# Altium integrated library Linear Technology Power Management uModule Regulators.IntLib: 166 symbols (part 22 of 67)
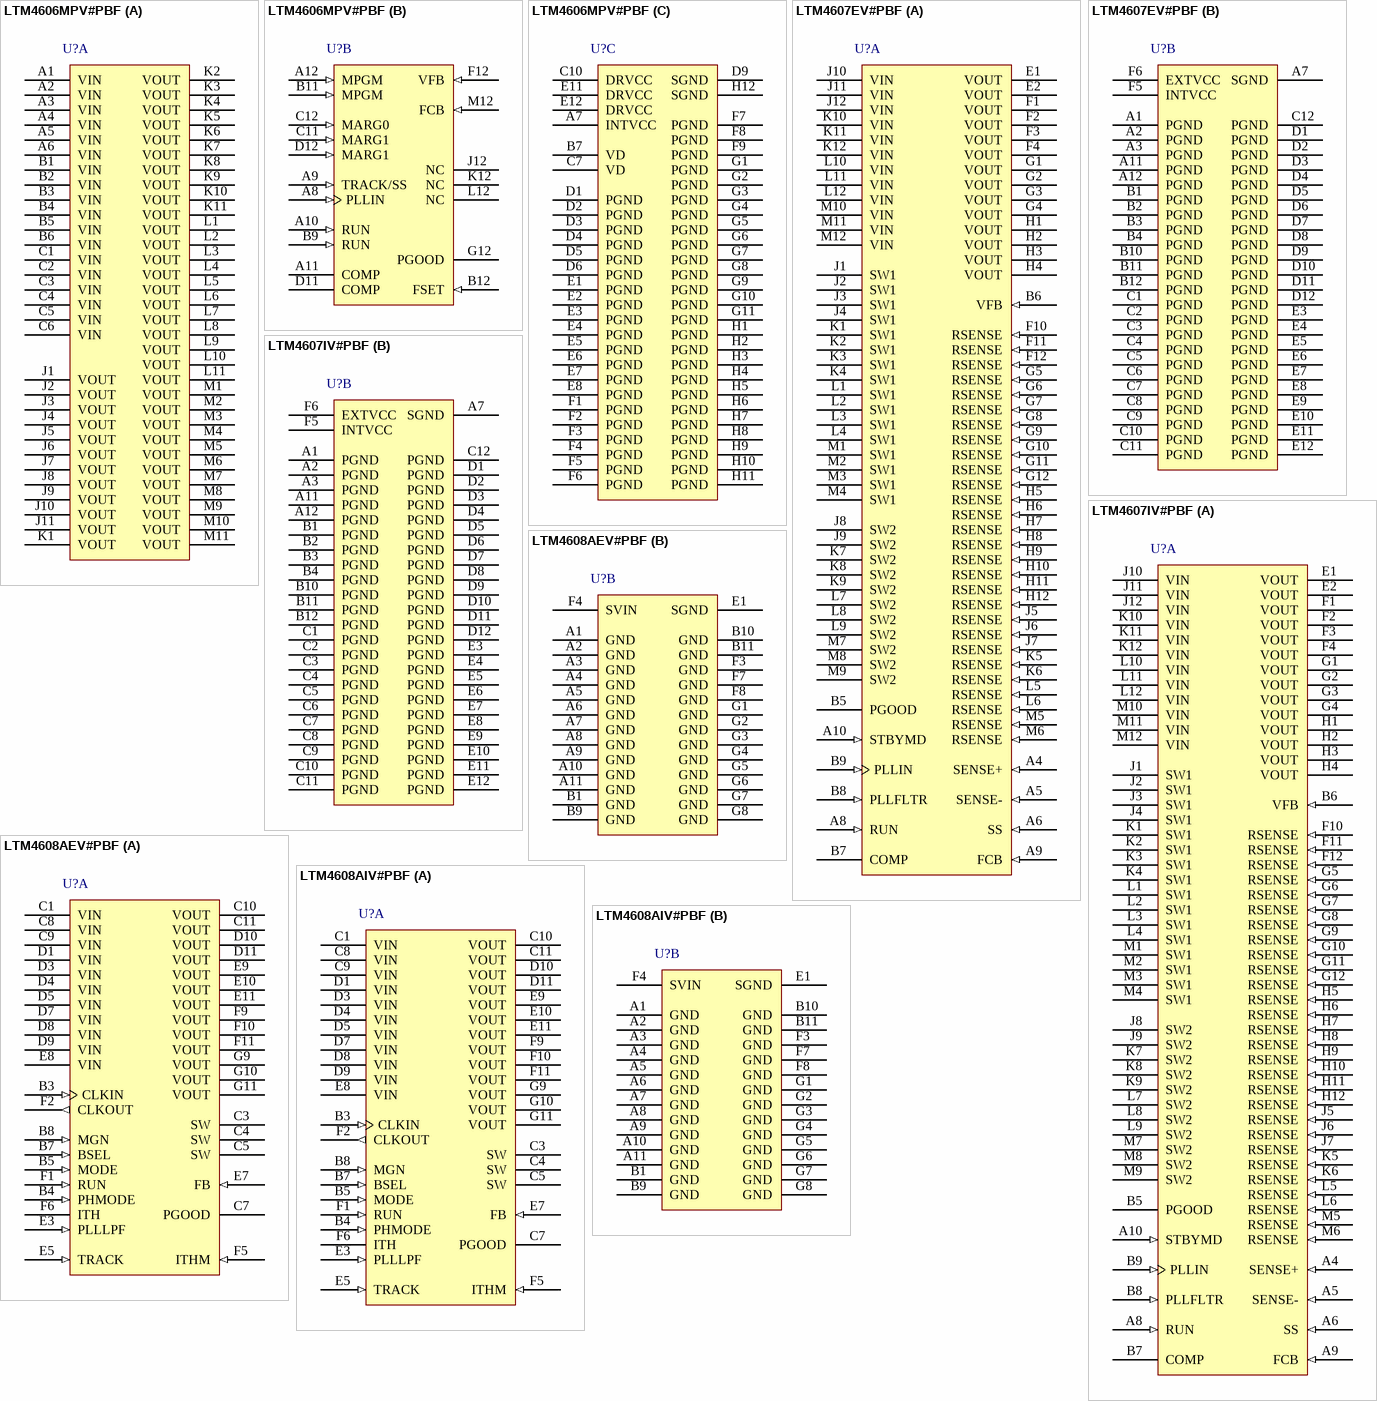
[diagram p48: symbols LTM4606MPV#PBF to LTM4608AIV#PBF]

## LTM4608AIV#PBF
designator U?
Low VIN, 8 A DC/DC uModule Regulator with Tracking, Margining, and Frequency Synchronization, 68-pin LGA, -40 to 125 degC, Pb-Free, Tray; Manufacturer: Linear Technology; PartNumber: LTM4608AIV#PBF; Extended Temp: E, I, MP; Frequency Sync Range: 750kHz - 2.25MHz; Frequency(kHz): 1500; Ishutdown(uA): 1; Isupply(mA): 0.4; Output Current(A): 8; Switch Current(A): 13; Synchronous: yes; Topology: Buck; Vin Max(V): 5.5; Vin Min(V): 2.7; Vout Max(V): 5; Vout Min(V): 0.6; DatasheetVersion: Rev. D; PackageVersion: Rev. A, 01/2013; PackageReference: LGA-68; PackageDescription: 68-Pin LGA, Body 15 x 9 mm, Pitch 1.27 mm; Supplier 1: Digi-Key; Supplier Part Number 1: LTM4608AIV#PBF-ND; Supplier 2: Farnell; Supplier Part Number 2: 1799818; Supplier 3: Newark; Supplier Part Number 3: 07P8348; Number of Outputs: 1; Packing: Tray; RoHS: TRUE; Tracking: yes; Mounting Technology: Surface Mount; Code_JEDEC: MO-222; ComponentLink1Description: Manufacturer URL; ComponentLink1URL: http://www.linear.com/; ComponentLink2Description: Datasheet; ComponentLink2URL: http://cds.linear.com/docs/en/datasheet/4608afd.pdf; ComponentLink3Description: Package Specification; ComponentLink3URL: http://cds.linear.com/docs/en/packaging/05081821_A_lga68.pdf
footprint LT-LGA-68-05-08-1821_V (LGA, 68-Leads, Body 15x9mm, Pitch 1.27mm)
part A pins: B3 CLKIN (in) "External Synchronization Input to Phase Detector. This pin is internally terminated to SGND with a 50k resistor. The phase locked loop will force the internal top power PMOS turn on to be synchronized with the rising edge of (See Datasheet)", B4 PHMODE (in) "Phase Selector Input. This pin determines the phase relationship between the internal oscillator and CLKOUT. Tie it high for 2-phase operation, tie it low for 3-phase operation, and float or tie it to VIN/2 for 4-phase (See Datasheet)", B5 MODE (in) "Mode Select Input. Tying this pin high enables Burst Mode operation. Tying this pin low enables forced continuous operation. Floating this pin or tying it to VIN/2 enables pulse-skipping operation.", B7 BSEL (in) "Margining Bit Select Pin. Tying BSEL low selects +/-5%, tying it high selects +/-10%. Floating it or tying it to VIN/2 selects +/-15%.", B8 MGN (in) "Margining Pin. Increases or decreases the output voltage by the amount specified by the BSEL pin. To disable margining, tie the MGN pin to a voltage divider with 50k resistors from VIN to ground. See the Applications (See Datasheet)", C1 VIN (power) "Power Input Pins. Apply input voltage between these pins and GND pins. Recommend placing input decoupling capacitance directly between VIN pins and GND pins.", C3 SW "Switching Node of the Circuit is Used for Testing Purposes. This can be connected to an electrically open circuit copper pad on the board for improved thermal performance.", C4 SW "Switching Node of the Circuit is Used for Testing Purposes. This can be connected to an electrically open circuit copper pad on the board for improved thermal performance.", C5 SW "Switching Node of the Circuit is Used for Testing Purposes. This can be connected to an electrically open circuit copper pad on the board for improved thermal performance.", C7 PGOOD (oc) "Output Voltage Power Good Indicator. Open-drain logic output that is pulled to ground when the output voltage is not within +/-10% of the regulation point. Disabled during margining.", C8 VIN (power) "Power Input Pins. Apply input voltage between these pins and GND pins. Recommend placing input decoupling capacitance directly between VIN pins and GND pins.", C9 VIN (power) "Power Input Pins. Apply input voltage between these pins and GND pins. Recommend placing input decoupling capacitance directly between VIN pins and GND pins.", C10 VOUT (power) "Power Output Pins. Apply output load between these pins and GND pins. Recommend placing output decoupling capacitance directly between these pins and GND pins. See Table 1.", C11 VOUT (power) "Power Output Pins. Apply output load between these pins and GND pins. Recommend placing output decoupling capacitance directly between these pins and GND pins. See Table 1.", D1 VIN (power) "Power Input Pins. Apply input voltage between these pins and GND pins. Recommend placing input decoupling capacitance directly between VIN pins and GND pins.", D3 VIN (power) "Power Input Pins. Apply input voltage between these pins and GND pins. Recommend placing input decoupling capacitance directly between VIN pins and GND pins.", D4 VIN (power) "Power Input Pins. Apply input voltage between these pins and GND pins. Recommend placing input decoupling capacitance directly between VIN pins and GND pins.", D5 VIN (power) "Power Input Pins. Apply input voltage between these pins and GND pins. Recommend placing input decoupling capacitance directly between VIN pins and GND pins.", D7 VIN (power) "Power Input Pins. Apply input voltage between these pins and GND pins. Recommend placing input decoupling capacitance directly between VIN pins and GND pins.", D8 VIN (power) "Power Input Pins. Apply input voltage between these pins and GND pins. Recommend placing input decoupling capacitance directly between VIN pins and GND pins.", D9 VIN (power) "Power Input Pins. Apply input voltage between these pins and GND pins. Recommend placing input decoupling capacitance directly between VIN pins and GND pins.", D10 VOUT (power) "Power Output Pins. Apply output load between these pins and GND pins. Recommend placing output decoupling capacitance directly between these pins and GND pins. See Table 1.", D11 VOUT (power) "Power Output Pins. Apply output load between these pins and GND pins. Recommend placing output decoupling capacitance directly between these pins and GND pins. See Table 1.", E3 PLLLPF (in) "Phase Locked Loop Lowpass Filter. An internal lowpass filter is tied to this pin. In spread spectrum mode, placing a capacitor here to SGND controls the slew rate from one frequency to the next. Alternatively, floating this (See Datasheet)", E5 TRACK (in) "Output Voltage Tracking Pin. Voltage tracking is enabled when the TRACK voltage is below 0.57V. If tracking is not desired, then connect the TRACK pin to SVIN. If TRACK is not tied to SVIN, then the TRACK pin’s voltag(See Datasheet)", E7 FB (in) "The Negative Input of the Error Amplifier. Internally, this pin is connected to VOUT with a 10k precision resistor. Different output voltages can be programmed with an additional resistor between FB and GND pins. In (See Datasheet)", E8 VIN (power) "Power Input Pins. Apply input voltage between these pins and GND pins. Recommend placing input decoupling capacitance directly between VIN pins and GND pins.", E9 VOUT (power) "Power Output Pins. Apply output load between these pins and GND pins. Recommend placing output decoupling capacitance directly between these pins and GND pins. See Table 1.", E10 VOUT (power) "Power Output Pins. Apply output load between these pins and GND pins. Recommend placing output decoupling capacitance directly between these pins and GND pins. See Table 1.", E11 VOUT (power) "Power Output Pins. Apply output load between these pins and GND pins. Recommend placing output decoupling capacitance directly between these pins and GND pins. See Table 1.", F1 RUN (in) "Run Control Pin. A voltage above 1.5V will turn on the module.", F2 CLKOUT (out) "Output Clock Signal for PolyPhase Operation. The phase of CLKOUT is determined by the state of the PHMODE pin.", F5 ITHM (in) "Negative Input to the Internal ITH Differential Amplifier. Tie this pin to SGND for single phase operation. For PolyPhase operation, tie the master’s ITHM to SGND while connecting all of the ITHM pins together.", F6 ITH "Current Control Threshold and Error Amplifier Compensation Point. The current comparator threshold increases with this control voltage. Tie together in parallel operation.", F9 VOUT (power) "Power Output Pins. Apply output load between these pins and GND pins. Recommend placing output decoupling capacitance directly between these pins and GND pins. See Table 1.", F10 VOUT (power) "Power Output Pins. Apply output load between these pins and GND pins. Recommend placing output decoupling capacitance directly between these pins and GND pins. See Table 1.", F11 VOUT (power) "Power Output Pins. Apply output load between these pins and GND pins. Recommend placing output decoupling capacitance directly between these pins and GND pins. See Table 1.", G9 VOUT (power) "Power Output Pins. Apply output load between these pins and GND pins. Recommend placing output decoupling capacitance directly between these pins and GND pins. See Table 1.", G10 VOUT (power) "Power Output Pins. Apply output load between these pins and GND pins. Recommend placing output decoupling capacitance directly between these pins and GND pins. See Table 1.", G11 VOUT (power) "Power Output Pins. Apply output load between these pins and GND pins. Recommend placing output decoupling capacitance directly between these pins and GND pins. See Table 1."
part B pins: A1 GND (power) "Power Ground Pins for Both Input and Output Returns", A2 GND (power) "Power Ground Pins for Both Input and Output Returns", A3 GND (power) "Power Ground Pins for Both Input and Output Returns", A4 GND (power) "Power Ground Pins for Both Input and Output Returns", A5 GND (power) "Power Ground Pins for Both Input and Output Returns", A6 GND (power) "Power Ground Pins for Both Input and Output Returns", A7 GND (power) "Power Ground Pins for Both Input and Output Returns", A8 GND (power) "Power Ground Pins for Both Input and Output Returns", A9 GND (power) "Power Ground Pins for Both Input and Output Returns", A10 GND (power) "Power Ground Pins for Both Input and Output Returns", A11 GND (power) "Power Ground Pins for Both Input and Output Returns", B1 GND (power) "Power Ground Pins for Both Input and Output Returns", B9 GND (power) "Power Ground Pins for Both Input and Output Returns", B10 GND (power) "Power Ground Pins for Both Input and Output Returns", B11 GND (power) "Power Ground Pins for Both Input and Output Returns", E1 SGND (power) "Signal Ground Pin. Return ground path for all analog and low power circuitry. Tie a single connection to GND in the application.", F3 GND (power) "Power Ground Pins for Both Input and Output Returns", F4 SVIN (power) "Signal Input Voltage. This pin is internally connected to VIN through a lowpass filter.", F7 GND (power) "Power Ground Pins for Both Input and Output Returns", F8 GND (power) "Power Ground Pins for Both Input and Output Returns", G1 GND (power) "Power Ground Pins for Both Input and Output Returns", G2 GND (power) "Power Ground Pins for Both Input and Output Returns", G3 GND (power) "Power Ground Pins for Both Input and Output Returns", G4 GND (power) "Power Ground Pins for Both Input and Output Returns", G5 GND (power) "Power Ground Pins for Both Input and Output Returns", G6 GND (power) "Power Ground Pins for Both Input and Output Returns", G7 GND (power) "Power Ground Pins for Both Input and Output Returns", G8 GND (power) "Power Ground Pins for Both Input and Output Returns"

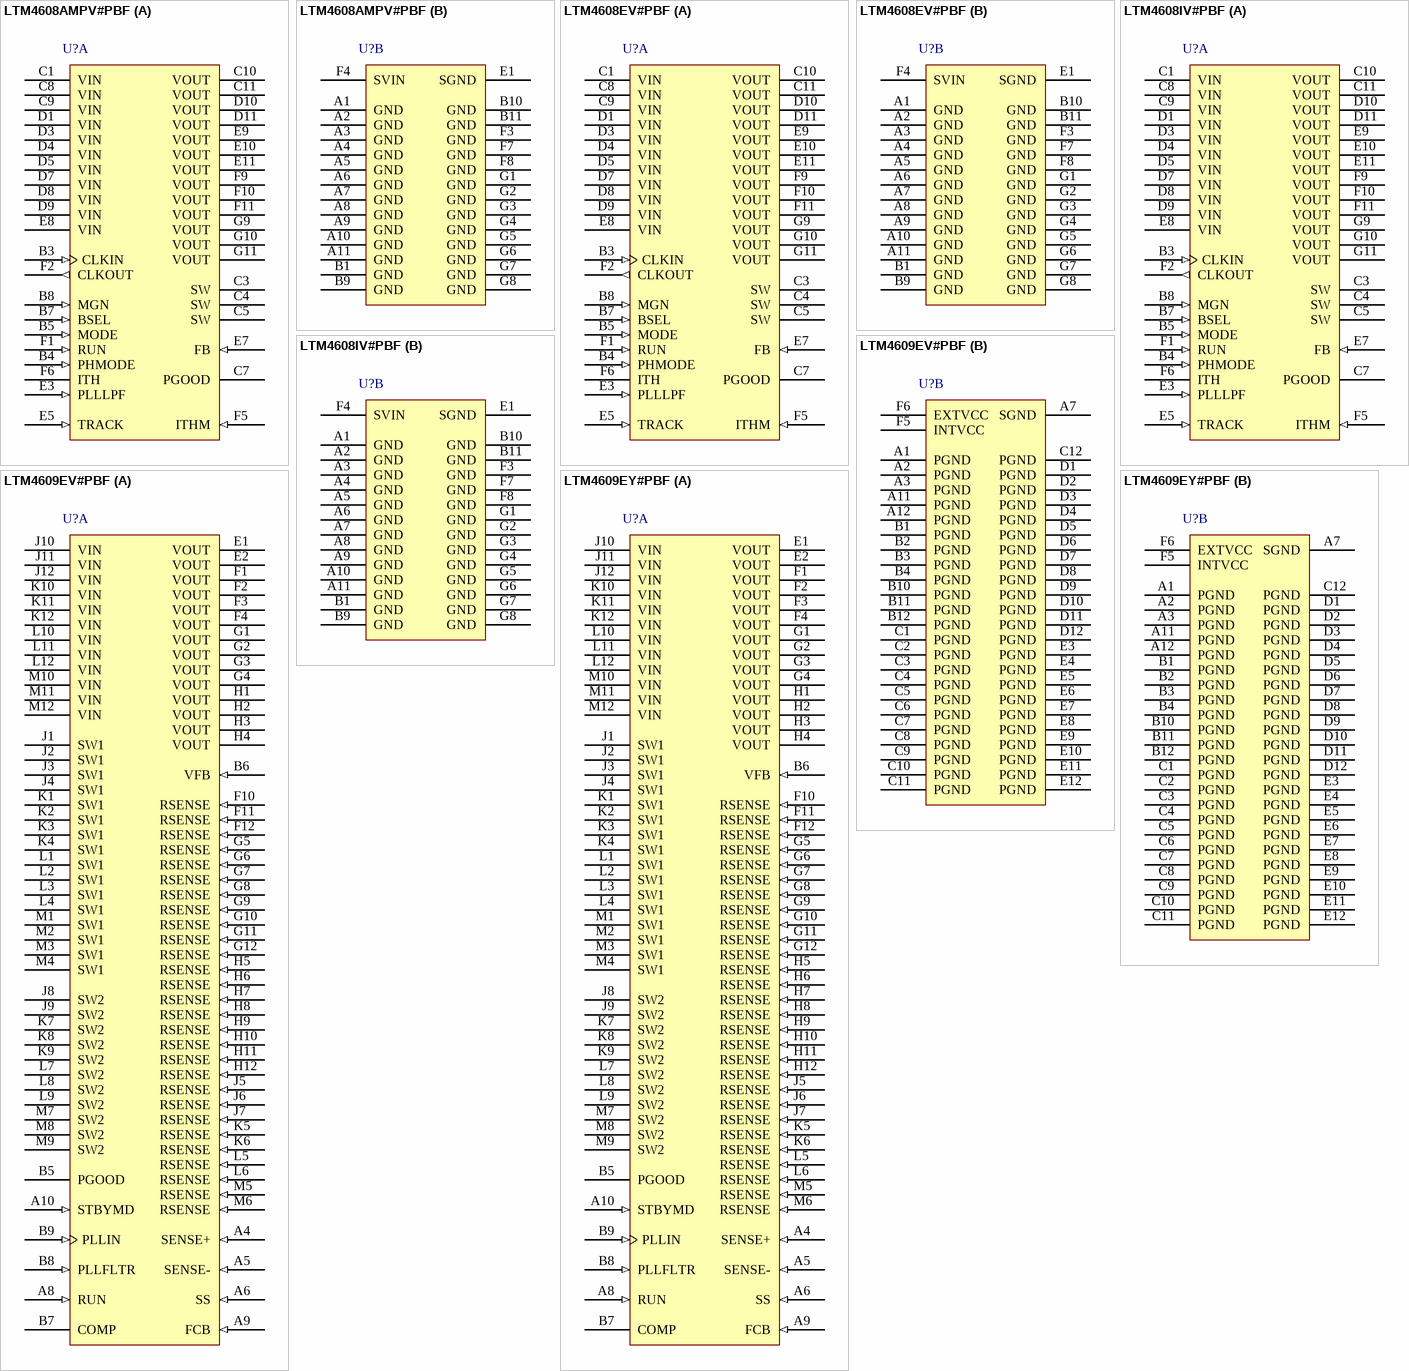
[diagram p9: symbols LTM4608AMPV#PBF to LTM4609EY#PBF]

## LTM4608AMPV#PBF
designator U?
Low VIN, 8 A DC/DC uModule Regulator with Tracking, Margining, and Frequency Synchronization, 68-pin LGA, -55 to 125 degC, Pb-Free, Tray; Manufacturer: Linear Technology; PartNumber: LTM4608AMPV#PBF; Extended Temp: E, I, MP; Frequency Sync Range: 750kHz - 2.25MHz; Frequency(kHz): 1500; Ishutdown(uA): 1; Isupply(mA): 0.4; Output Current(A): 8; Switch Current(A): 13; Synchronous: yes; Topology: Buck; Vin Max(V): 5.5; Vin Min(V): 2.7; Vout Max(V): 5; Vout Min(V): 0.6; DatasheetVersion: Rev. D; PackageVersion: Rev. A, 01/2013; PackageReference: LGA-68; PackageDescription: 68-Pin LGA, Body 15 x 9 mm, Pitch 1.27 mm; Supplier 1: Digi-Key; Supplier Part Number 1: LTM4608AMPV#PBF-ND; Supplier 2: Farnell; Supplier Part Number 2: 2308401; Supplier 3: Newark; Supplier Part Number 3: 07P8349; Number of Outputs: 1; Packing: Tray; RoHS: TRUE; Tracking: yes; Mounting Technology: Surface Mount; Code_JEDEC: MO-222; ComponentLink1Description: Manufacturer URL; ComponentLink1URL: http://www.linear.com/; ComponentLink2Description: Datasheet; ComponentLink2URL: http://cds.linear.com/docs/en/datasheet/4608afd.pdf; ComponentLink3Description: Package Specification; ComponentLink3URL: http://cds.linear.com/docs/en/packaging/05081821_A_lga68.pdf
footprint LT-LGA-68-05-08-1821_V (LGA, 68-Leads, Body 15x9mm, Pitch 1.27mm)
part A pins: B3 CLKIN (in) "External Synchronization Input to Phase Detector. This pin is internally terminated to SGND with a 50k resistor. The phase locked loop will force the internal top power PMOS turn on to be synchronized with the rising edge of (See Datasheet)", B4 PHMODE (in) "Phase Selector Input. This pin determines the phase relationship between the internal oscillator and CLKOUT. Tie it high for 2-phase operation, tie it low for 3-phase operation, and float or tie it to VIN/2 for 4-phase (See Datasheet)", B5 MODE (in) "Mode Select Input. Tying this pin high enables Burst Mode operation. Tying this pin low enables forced continuous operation. Floating this pin or tying it to VIN/2 enables pulse-skipping operation.", B7 BSEL (in) "Margining Bit Select Pin. Tying BSEL low selects +/-5%, tying it high selects +/-10%. Floating it or tying it to VIN/2 selects +/-15%.", B8 MGN (in) "Margining Pin. Increases or decreases the output voltage by the amount specified by the BSEL pin. To disable margining, tie the MGN pin to a voltage divider with 50k resistors from VIN to ground. See the Applications (See Datasheet)", C1 VIN (power) "Power Input Pins. Apply input voltage between these pins and GND pins. Recommend placing input decoupling capacitance directly between VIN pins and GND pins.", C3 SW "Switching Node of the Circuit is Used for Testing Purposes. This can be connected to an electrically open circuit copper pad on the board for improved thermal performance.", C4 SW "Switching Node of the Circuit is Used for Testing Purposes. This can be connected to an electrically open circuit copper pad on the board for improved thermal performance.", C5 SW "Switching Node of the Circuit is Used for Testing Purposes. This can be connected to an electrically open circuit copper pad on the board for improved thermal performance.", C7 PGOOD (oc) "Output Voltage Power Good Indicator. Open-drain logic output that is pulled to ground when the output voltage is not within +/-10% of the regulation point. Disabled during margining.", C8 VIN (power) "Power Input Pins. Apply input voltage between these pins and GND pins. Recommend placing input decoupling capacitance directly between VIN pins and GND pins.", C9 VIN (power) "Power Input Pins. Apply input voltage between these pins and GND pins. Recommend placing input decoupling capacitance directly between VIN pins and GND pins.", C10 VOUT (power) "Power Output Pins. Apply output load between these pins and GND pins. Recommend placing output decoupling capacitance directly between these pins and GND pins. See Table 1.", C11 VOUT (power) "Power Output Pins. Apply output load between these pins and GND pins. Recommend placing output decoupling capacitance directly between these pins and GND pins. See Table 1.", D1 VIN (power) "Power Input Pins. Apply input voltage between these pins and GND pins. Recommend placing input decoupling capacitance directly between VIN pins and GND pins.", D3 VIN (power) "Power Input Pins. Apply input voltage between these pins and GND pins. Recommend placing input decoupling capacitance directly between VIN pins and GND pins.", D4 VIN (power) "Power Input Pins. Apply input voltage between these pins and GND pins. Recommend placing input decoupling capacitance directly between VIN pins and GND pins.", D5 VIN (power) "Power Input Pins. Apply input voltage between these pins and GND pins. Recommend placing input decoupling capacitance directly between VIN pins and GND pins.", D7 VIN (power) "Power Input Pins. Apply input voltage between these pins and GND pins. Recommend placing input decoupling capacitance directly between VIN pins and GND pins.", D8 VIN (power) "Power Input Pins. Apply input voltage between these pins and GND pins. Recommend placing input decoupling capacitance directly between VIN pins and GND pins.", D9 VIN (power) "Power Input Pins. Apply input voltage between these pins and GND pins. Recommend placing input decoupling capacitance directly between VIN pins and GND pins.", D10 VOUT (power) "Power Output Pins. Apply output load between these pins and GND pins. Recommend placing output decoupling capacitance directly between these pins and GND pins. See Table 1.", D11 VOUT (power) "Power Output Pins. Apply output load between these pins and GND pins. Recommend placing output decoupling capacitance directly between these pins and GND pins. See Table 1.", E3 PLLLPF (in) "Phase Locked Loop Lowpass Filter. An internal lowpass filter is tied to this pin. In spread spectrum mode, placing a capacitor here to SGND controls the slew rate from one frequency to the next. Alternatively, floating this (See Datasheet)", E5 TRACK (in) "Output Voltage Tracking Pin. Voltage tracking is enabled when the TRACK voltage is below 0.57V. If tracking is not desired, then connect the TRACK pin to SVIN. If TRACK is not tied to SVIN, then the TRACK pin’s voltag(See Datasheet)", E7 FB (in) "The Negative Input of the Error Amplifier. Internally, this pin is connected to VOUT with a 10k precision resistor. Different output voltages can be programmed with an additional resistor between FB and GND pins. In (See Datasheet)", E8 VIN (power) "Power Input Pins. Apply input voltage between these pins and GND pins. Recommend placing input decoupling capacitance directly between VIN pins and GND pins.", E9 VOUT (power) "Power Output Pins. Apply output load between these pins and GND pins. Recommend placing output decoupling capacitance directly between these pins and GND pins. See Table 1.", E10 VOUT (power) "Power Output Pins. Apply output load between these pins and GND pins. Recommend placing output decoupling capacitance directly between these pins and GND pins. See Table 1.", E11 VOUT (power) "Power Output Pins. Apply output load between these pins and GND pins. Recommend placing output decoupling capacitance directly between these pins and GND pins. See Table 1.", F1 RUN (in) "Run Control Pin. A voltage above 1.5V will turn on the module.", F2 CLKOUT (out) "Output Clock Signal for PolyPhase Operation. The phase of CLKOUT is determined by the state of the PHMODE pin.", F5 ITHM (in) "Negative Input to the Internal ITH Differential Amplifier. Tie this pin to SGND for single phase operation. For PolyPhase operation, tie the master’s ITHM to SGND while connecting all of the ITHM pins together.", F6 ITH "Current Control Threshold and Error Amplifier Compensation Point. The current comparator threshold increases with this control voltage. Tie together in parallel operation.", F9 VOUT (power) "Power Output Pins. Apply output load between these pins and GND pins. Recommend placing output decoupling capacitance directly between these pins and GND pins. See Table 1.", F10 VOUT (power) "Power Output Pins. Apply output load between these pins and GND pins. Recommend placing output decoupling capacitance directly between these pins and GND pins. See Table 1.", F11 VOUT (power) "Power Output Pins. Apply output load between these pins and GND pins. Recommend placing output decoupling capacitance directly between these pins and GND pins. See Table 1.", G9 VOUT (power) "Power Output Pins. Apply output load between these pins and GND pins. Recommend placing output decoupling capacitance directly between these pins and GND pins. See Table 1.", G10 VOUT (power) "Power Output Pins. Apply output load between these pins and GND pins. Recommend placing output decoupling capacitance directly between these pins and GND pins. See Table 1.", G11 VOUT (power) "Power Output Pins. Apply output load between these pins and GND pins. Recommend placing output decoupling capacitance directly between these pins and GND pins. See Table 1."
part B pins: A1 GND (power) "Power Ground Pins for Both Input and Output Returns", A2 GND (power) "Power Ground Pins for Both Input and Output Returns", A3 GND (power) "Power Ground Pins for Both Input and Output Returns", A4 GND (power) "Power Ground Pins for Both Input and Output Returns", A5 GND (power) "Power Ground Pins for Both Input and Output Returns", A6 GND (power) "Power Ground Pins for Both Input and Output Returns", A7 GND (power) "Power Ground Pins for Both Input and Output Returns", A8 GND (power) "Power Ground Pins for Both Input and Output Returns", A9 GND (power) "Power Ground Pins for Both Input and Output Returns", A10 GND (power) "Power Ground Pins for Both Input and Output Returns", A11 GND (power) "Power Ground Pins for Both Input and Output Returns", B1 GND (power) "Power Ground Pins for Both Input and Output Returns", B9 GND (power) "Power Ground Pins for Both Input and Output Returns", B10 GND (power) "Power Ground Pins for Both Input and Output Returns", B11 GND (power) "Power Ground Pins for Both Input and Output Returns", E1 SGND (power) "Signal Ground Pin. Return ground path for all analog and low power circuitry. Tie a single connection to GND in the application.", F3 GND (power) "Power Ground Pins for Both Input and Output Returns", F4 SVIN (power) "Signal Input Voltage. This pin is internally connected to VIN through a lowpass filter.", F7 GND (power) "Power Ground Pins for Both Input and Output Returns", F8 GND (power) "Power Ground Pins for Both Input and Output Returns", G1 GND (power) "Power Ground Pins for Both Input and Output Returns", G2 GND (power) "Power Ground Pins for Both Input and Output Returns", G3 GND (power) "Power Ground Pins for Both Input and Output Returns", G4 GND (power) "Power Ground Pins for Both Input and Output Returns", G5 GND (power) "Power Ground Pins for Both Input and Output Returns", G6 GND (power) "Power Ground Pins for Both Input and Output Returns", G7 GND (power) "Power Ground Pins for Both Input and Output Returns", G8 GND (power) "Power Ground Pins for Both Input and Output Returns"

## LTM4608EV#PBF
designator U?
Low VIN, 8 A DC/DC uModule Regulator with Tracking, Margining, and Frequency Synchronization, 68-pin LGA, -40 to 85 degC, Pb-Free, Tray; Manufacturer: Linear Technology; PartNumber: LTM4608EV#PBF; Extended Temp: E, I, MP; Frequency Sync Range: 750kHz - 2.25MHz; Frequency(kHz): 1500; Ishutdown(uA): 1; Isupply(mA): 0.4; Output Current(A): 8; Switch Current(A): 13; Synchronous: yes; Topology: Buck; Vin Max(V): 5.5; Vin Min(V): 2.7; Vout Max(V): 5; Vout Min(V): 0.6; DatasheetVersion: Rev. D; PackageVersion: Rev. A, 01/2013; PackageReference: LGA-68; PackageDescription: 68-Pin LGA, Body 15 x 9 mm, Pitch 1.27 mm; Supplier 1: Digi-Key; Supplier Part Number 1: LTM4608EV#PBF-ND; Supplier 2: Farnell; Supplier Part Number 2: 1799819; Supplier 3: Newark; Supplier Part Number 3: 01N6433; Number of Outputs: 1; Packing: Tray; RoHS: TRUE; Tracking: yes; Mounting Technology: Surface Mount; Code_JEDEC: MO-222; ComponentLink1Description: Manufacturer URL; ComponentLink1URL: http://www.linear.com/; ComponentLink2Description: Datasheet; ComponentLink2URL: http://cds.linear.com/docs/en/datasheet/4608afd.pdf; ComponentLink3Description: Package Specification; ComponentLink3URL: http://cds.linear.com/docs/en/packaging/05081821_A_lga68.pdf
footprint LT-LGA-68-05-08-1821_V (LGA, 68-Leads, Body 15x9mm, Pitch 1.27mm)
part A pins: B3 CLKIN (in) "External Synchronization Input to Phase Detector. This pin is internally terminated to SGND with a 50k resistor. The phase locked loop will force the internal top power PMOS turn on to be synchronized with the rising edge of (See Datasheet)", B4 PHMODE (in) "Phase Selector Input. This pin determines the phase relationship between the internal oscillator and CLKOUT. Tie it high for 2-phase operation, tie it low for 3-phase operation, and float or tie it to VIN/2 for 4-phase (See Datasheet)", B5 MODE (in) "Mode Select Input. Tying this pin high enables Burst Mode operation. Tying this pin low enables forced continuous operation. Floating this pin or tying it to VIN/2 enables pulse-skipping operation.", B7 BSEL (in) "Margining Bit Select Pin. Tying BSEL low selects +/-5%, tying it high selects +/-10%. Floating it or tying it to VIN/2 selects +/-15%.", B8 MGN (in) "Margining Pin. Increases or decreases the output voltage by the amount specified by the BSEL pin. To disable margining, tie the MGN pin to a voltage divider with 50k resistors from VIN to ground. See the Applications (See Datasheet)", C1 VIN (power) "Power Input Pins. Apply input voltage between these pins and GND pins. Recommend placing input decoupling capacitance directly between VIN pins and GND pins.", C3 SW "Switching Node of the Circuit is Used for Testing Purposes. This can be connected to an electrically open circuit copper pad on the board for improved thermal performance.", C4 SW "Switching Node of the Circuit is Used for Testing Purposes. This can be connected to an electrically open circuit copper pad on the board for improved thermal performance.", C5 SW "Switching Node of the Circuit is Used for Testing Purposes. This can be connected to an electrically open circuit copper pad on the board for improved thermal performance.", C7 PGOOD (oc) "Output Voltage Power Good Indicator. Open-drain logic output that is pulled to ground when the output voltage is not within +/-10% of the regulation point. Disabled during margining.", C8 VIN (power) "Power Input Pins. Apply input voltage between these pins and GND pins. Recommend placing input decoupling capacitance directly between VIN pins and GND pins.", C9 VIN (power) "Power Input Pins. Apply input voltage between these pins and GND pins. Recommend placing input decoupling capacitance directly between VIN pins and GND pins.", C10 VOUT (power) "Power Output Pins. Apply output load between these pins and GND pins. Recommend placing output decoupling capacitance directly between these pins and GND pins. See Table 1.", C11 VOUT (power) "Power Output Pins. Apply output load between these pins and GND pins. Recommend placing output decoupling capacitance directly between these pins and GND pins. See Table 1.", D1 VIN (power) "Power Input Pins. Apply input voltage between these pins and GND pins. Recommend placing input decoupling capacitance directly between VIN pins and GND pins.", D3 VIN (power) "Power Input Pins. Apply input voltage between these pins and GND pins. Recommend placing input decoupling capacitance directly between VIN pins and GND pins.", D4 VIN (power) "Power Input Pins. Apply input voltage between these pins and GND pins. Recommend placing input decoupling capacitance directly between VIN pins and GND pins.", D5 VIN (power) "Power Input Pins. Apply input voltage between these pins and GND pins. Recommend placing input decoupling capacitance directly between VIN pins and GND pins.", D7 VIN (power) "Power Input Pins. Apply input voltage between these pins and GND pins. Recommend placing input decoupling capacitance directly between VIN pins and GND pins.", D8 VIN (power) "Power Input Pins. Apply input voltage between these pins and GND pins. Recommend placing input decoupling capacitance directly between VIN pins and GND pins.", D9 VIN (power) "Power Input Pins. Apply input voltage between these pins and GND pins. Recommend placing input decoupling capacitance directly between VIN pins and GND pins.", D10 VOUT (power) "Power Output Pins. Apply output load between these pins and GND pins. Recommend placing output decoupling capacitance directly between these pins and GND pins. See Table 1.", D11 VOUT (power) "Power Output Pins. Apply output load between these pins and GND pins. Recommend placing output decoupling capacitance directly between these pins and GND pins. See Table 1.", E3 PLLLPF (in) "Phase Locked Loop Lowpass Filter. An internal lowpass filter is tied to this pin. In spread spectrum mode, placing a capacitor here to SGND controls the slew rate from one frequency to the next. Alternatively, floating this (See Datasheet)", E5 TRACK (in) "Output Voltage Tracking Pin. Voltage tracking is enabled when the TRACK voltage is below 0.57V. If tracking is not desired, then connect the TRACK pin to SVIN. If TRACK is not tied to SVIN, then the TRACK pin’s voltag(See Datasheet)", E7 FB (in) "The Negative Input of the Error Amplifier. Internally, this pin is connected to VOUT with a 10k precision resistor. Different output voltages can be programmed with an additional resistor between FB and GND pins. In (See Datasheet)", E8 VIN (power) "Power Input Pins. Apply input voltage between these pins and GND pins. Recommend placing input decoupling capacitance directly between VIN pins and GND pins.", E9 VOUT (power) "Power Output Pins. Apply output load between these pins and GND pins. Recommend placing output decoupling capacitance directly between these pins and GND pins. See Table 1.", E10 VOUT (power) "Power Output Pins. Apply output load between these pins and GND pins. Recommend placing output decoupling capacitance directly between these pins and GND pins. See Table 1.", E11 VOUT (power) "Power Output Pins. Apply output load between these pins and GND pins. Recommend placing output decoupling capacitance directly between these pins and GND pins. See Table 1.", F1 RUN (in) "Run Control Pin. A voltage above 1.5V will turn on the module.", F2 CLKOUT (out) "Output Clock Signal for PolyPhase Operation. The phase of CLKOUT is determined by the state of the PHMODE pin.", F5 ITHM (in) "Negative Input to the Internal ITH Differential Amplifier. Tie this pin to SGND for single phase operation. For PolyPhase operation, tie the master’s ITHM to SGND while connecting all of the ITHM pins together.", F6 ITH "Current Control Threshold and Error Amplifier Compensation Point. The current comparator threshold increases with this control voltage. Tie together in parallel operation.", F9 VOUT (power) "Power Output Pins. Apply output load between these pins and GND pins. Recommend placing output decoupling capacitance directly between these pins and GND pins. See Table 1.", F10 VOUT (power) "Power Output Pins. Apply output load between these pins and GND pins. Recommend placing output decoupling capacitance directly between these pins and GND pins. See Table 1.", F11 VOUT (power) "Power Output Pins. Apply output load between these pins and GND pins. Recommend placing output decoupling capacitance directly between these pins and GND pins. See Table 1.", G9 VOUT (power) "Power Output Pins. Apply output load between these pins and GND pins. Recommend placing output decoupling capacitance directly between these pins and GND pins. See Table 1.", G10 VOUT (power) "Power Output Pins. Apply output load between these pins and GND pins. Recommend placing output decoupling capacitance directly between these pins and GND pins. See Table 1.", G11 VOUT (power) "Power Output Pins. Apply output load between these pins and GND pins. Recommend placing output decoupling capacitance directly between these pins and GND pins. See Table 1."
part B pins: A1 GND (power) "Power Ground Pins for Both Input and Output Returns", A2 GND (power) "Power Ground Pins for Both Input and Output Returns", A3 GND (power) "Power Ground Pins for Both Input and Output Returns", A4 GND (power) "Power Ground Pins for Both Input and Output Returns", A5 GND (power) "Power Ground Pins for Both Input and Output Returns", A6 GND (power) "Power Ground Pins for Both Input and Output Returns", A7 GND (power) "Power Ground Pins for Both Input and Output Returns", A8 GND (power) "Power Ground Pins for Both Input and Output Returns", A9 GND (power) "Power Ground Pins for Both Input and Output Returns", A10 GND (power) "Power Ground Pins for Both Input and Output Returns", A11 GND (power) "Power Ground Pins for Both Input and Output Returns", B1 GND (power) "Power Ground Pins for Both Input and Output Returns", B9 GND (power) "Power Ground Pins for Both Input and Output Returns", B10 GND (power) "Power Ground Pins for Both Input and Output Returns", B11 GND (power) "Power Ground Pins for Both Input and Output Returns", E1 SGND (power) "Signal Ground Pin. Return ground path for all analog and low power circuitry. Tie a single connection to GND in the application.", F3 GND (power) "Power Ground Pins for Both Input and Output Returns", F4 SVIN (power) "Signal Input Voltage. This pin is internally connected to VIN through a lowpass filter.", F7 GND (power) "Power Ground Pins for Both Input and Output Returns", F8 GND (power) "Power Ground Pins for Both Input and Output Returns", G1 GND (power) "Power Ground Pins for Both Input and Output Returns", G2 GND (power) "Power Ground Pins for Both Input and Output Returns", G3 GND (power) "Power Ground Pins for Both Input and Output Returns", G4 GND (power) "Power Ground Pins for Both Input and Output Returns", G5 GND (power) "Power Ground Pins for Both Input and Output Returns", G6 GND (power) "Power Ground Pins for Both Input and Output Returns", G7 GND (power) "Power Ground Pins for Both Input and Output Returns", G8 GND (power) "Power Ground Pins for Both Input and Output Returns"

## LTM4608IV#PBF
designator U?
Low VIN, 8 A DC/DC uModule Regulator with Tracking, Margining, and Frequency Synchronization, 68-pin LGA, -40 to 85 degC, Pb-Free, Tray; Manufacturer: Linear Technology; PartNumber: LTM4608IV#PBF; Extended Temp: E, I, MP; Frequency Sync Range: 750kHz - 2.25MHz; Frequency(kHz): 1500; Ishutdown(uA): 1; Isupply(mA): 0.4; Output Current(A): 8; Switch Current(A): 13; Synchronous: yes; Topology: Buck; Vin Max(V): 5.5; Vin Min(V): 2.7; Vout Max(V): 5; Vout Min(V): 0.6; DatasheetVersion: Rev. D; PackageVersion: Rev. A, 01/2013; PackageReference: LGA-68; PackageDescription: 68-Pin LGA, Body 15 x 9 mm, Pitch 1.27 mm; Supplier 1: Digi-Key; Supplier Part Number 1: LTM4608IV#PBF-ND; Supplier 2: Farnell; Supplier Part Number 2: 1847464; Supplier 3: Newark; Supplier Part Number 3: 75M4608; Number of Outputs: 1; Packing: Tray; RoHS: TRUE; Tracking: yes; Mounting Technology: Surface Mount; Code_JEDEC: MO-222; ComponentLink1Description: Manufacturer URL; ComponentLink1URL: http://www.linear.com/; ComponentLink2Description: Datasheet; ComponentLink2URL: http://cds.linear.com/docs/en/datasheet/4608afd.pdf; ComponentLink3Description: Package Specification; ComponentLink3URL: http://cds.linear.com/docs/en/packaging/05081821_A_lga68.pdf
footprint LT-LGA-68-05-08-1821_V (LGA, 68-Leads, Body 15x9mm, Pitch 1.27mm)
part A pins: B3 CLKIN (in) "External Synchronization Input to Phase Detector. This pin is internally terminated to SGND with a 50k resistor. The phase locked loop will force the internal top power PMOS turn on to be synchronized with the rising edge of (See Datasheet)", B4 PHMODE (in) "Phase Selector Input. This pin determines the phase relationship between the internal oscillator and CLKOUT. Tie it high for 2-phase operation, tie it low for 3-phase operation, and float or tie it to VIN/2 for 4-phase (See Datasheet)", B5 MODE (in) "Mode Select Input. Tying this pin high enables Burst Mode operation. Tying this pin low enables forced continuous operation. Floating this pin or tying it to VIN/2 enables pulse-skipping operation.", B7 BSEL (in) "Margining Bit Select Pin. Tying BSEL low selects +/-5%, tying it high selects +/-10%. Floating it or tying it to VIN/2 selects +/-15%.", B8 MGN (in) "Margining Pin. Increases or decreases the output voltage by the amount specified by the BSEL pin. To disable margining, tie the MGN pin to a voltage divider with 50k resistors from VIN to ground. See the Applications (See Datasheet)", C1 VIN (power) "Power Input Pins. Apply input voltage between these pins and GND pins. Recommend placing input decoupling capacitance directly between VIN pins and GND pins.", C3 SW "Switching Node of the Circuit is Used for Testing Purposes. This can be connected to an electrically open circuit copper pad on the board for improved thermal performance.", C4 SW "Switching Node of the Circuit is Used for Testing Purposes. This can be connected to an electrically open circuit copper pad on the board for improved thermal performance.", C5 SW "Switching Node of the Circuit is Used for Testing Purposes. This can be connected to an electrically open circuit copper pad on the board for improved thermal performance.", C7 PGOOD (oc) "Output Voltage Power Good Indicator. Open-drain logic output that is pulled to ground when the output voltage is not within +/-10% of the regulation point. Disabled during margining.", C8 VIN (power) "Power Input Pins. Apply input voltage between these pins and GND pins. Recommend placing input decoupling capacitance directly between VIN pins and GND pins.", C9 VIN (power) "Power Input Pins. Apply input voltage between these pins and GND pins. Recommend placing input decoupling capacitance directly between VIN pins and GND pins.", C10 VOUT (power) "Power Output Pins. Apply output load between these pins and GND pins. Recommend placing output decoupling capacitance directly between these pins and GND pins. See Table 1.", C11 VOUT (power) "Power Output Pins. Apply output load between these pins and GND pins. Recommend placing output decoupling capacitance directly between these pins and GND pins. See Table 1.", D1 VIN (power) "Power Input Pins. Apply input voltage between these pins and GND pins. Recommend placing input decoupling capacitance directly between VIN pins and GND pins.", D3 VIN (power) "Power Input Pins. Apply input voltage between these pins and GND pins. Recommend placing input decoupling capacitance directly between VIN pins and GND pins.", D4 VIN (power) "Power Input Pins. Apply input voltage between these pins and GND pins. Recommend placing input decoupling capacitance directly between VIN pins and GND pins.", D5 VIN (power) "Power Input Pins. Apply input voltage between these pins and GND pins. Recommend placing input decoupling capacitance directly between VIN pins and GND pins.", D7 VIN (power) "Power Input Pins. Apply input voltage between these pins and GND pins. Recommend placing input decoupling capacitance directly between VIN pins and GND pins.", D8 VIN (power) "Power Input Pins. Apply input voltage between these pins and GND pins. Recommend placing input decoupling capacitance directly between VIN pins and GND pins.", D9 VIN (power) "Power Input Pins. Apply input voltage between these pins and GND pins. Recommend placing input decoupling capacitance directly between VIN pins and GND pins.", D10 VOUT (power) "Power Output Pins. Apply output load between these pins and GND pins. Recommend placing output decoupling capacitance directly between these pins and GND pins. See Table 1.", D11 VOUT (power) "Power Output Pins. Apply output load between these pins and GND pins. Recommend placing output decoupling capacitance directly between these pins and GND pins. See Table 1.", E3 PLLLPF (in) "Phase Locked Loop Lowpass Filter. An internal lowpass filter is tied to this pin. In spread spectrum mode, placing a capacitor here to SGND controls the slew rate from one frequency to the next. Alternatively, floating this (See Datasheet)", E5 TRACK (in) "Output Voltage Tracking Pin. Voltage tracking is enabled when the TRACK voltage is below 0.57V. If tracking is not desired, then connect the TRACK pin to SVIN. If TRACK is not tied to SVIN, then the TRACK pin’s voltag(See Datasheet)", E7 FB (in) "The Negative Input of the Error Amplifier. Internally, this pin is connected to VOUT with a 10k precision resistor. Different output voltages can be programmed with an additional resistor between FB and GND pins. In (See Datasheet)", E8 VIN (power) "Power Input Pins. Apply input voltage between these pins and GND pins. Recommend placing input decoupling capacitance directly between VIN pins and GND pins.", E9 VOUT (power) "Power Output Pins. Apply output load between these pins and GND pins. Recommend placing output decoupling capacitance directly between these pins and GND pins. See Table 1.", E10 VOUT (power) "Power Output Pins. Apply output load between these pins and GND pins. Recommend placing output decoupling capacitance directly between these pins and GND pins. See Table 1.", E11 VOUT (power) "Power Output Pins. Apply output load between these pins and GND pins. Recommend placing output decoupling capacitance directly between these pins and GND pins. See Table 1.", F1 RUN (in) "Run Control Pin. A voltage above 1.5V will turn on the module.", F2 CLKOUT (out) "Output Clock Signal for PolyPhase Operation. The phase of CLKOUT is determined by the state of the PHMODE pin.", F5 ITHM (in) "Negative Input to the Internal ITH Differential Amplifier. Tie this pin to SGND for single phase operation. For PolyPhase operation, tie the master’s ITHM to SGND while connecting all of the ITHM pins together.", F6 ITH "Current Control Threshold and Error Amplifier Compensation Point. The current comparator threshold increases with this control voltage. Tie together in parallel operation.", F9 VOUT (power) "Power Output Pins. Apply output load between these pins and GND pins. Recommend placing output decoupling capacitance directly between these pins and GND pins. See Table 1.", F10 VOUT (power) "Power Output Pins. Apply output load between these pins and GND pins. Recommend placing output decoupling capacitance directly between these pins and GND pins. See Table 1.", F11 VOUT (power) "Power Output Pins. Apply output load between these pins and GND pins. Recommend placing output decoupling capacitance directly between these pins and GND pins. See Table 1.", G9 VOUT (power) "Power Output Pins. Apply output load between these pins and GND pins. Recommend placing output decoupling capacitance directly between these pins and GND pins. See Table 1.", G10 VOUT (power) "Power Output Pins. Apply output load between these pins and GND pins. Recommend placing output decoupling capacitance directly between these pins and GND pins. See Table 1.", G11 VOUT (power) "Power Output Pins. Apply output load between these pins and GND pins. Recommend placing output decoupling capacitance directly between these pins and GND pins. See Table 1."
part B pins: A1 GND (power) "Power Ground Pins for Both Input and Output Returns", A2 GND (power) "Power Ground Pins for Both Input and Output Returns", A3 GND (power) "Power Ground Pins for Both Input and Output Returns", A4 GND (power) "Power Ground Pins for Both Input and Output Returns", A5 GND (power) "Power Ground Pins for Both Input and Output Returns", A6 GND (power) "Power Ground Pins for Both Input and Output Returns", A7 GND (power) "Power Ground Pins for Both Input and Output Returns", A8 GND (power) "Power Ground Pins for Both Input and Output Returns", A9 GND (power) "Power Ground Pins for Both Input and Output Returns", A10 GND (power) "Power Ground Pins for Both Input and Output Returns", A11 GND (power) "Power Ground Pins for Both Input and Output Returns", B1 GND (power) "Power Ground Pins for Both Input and Output Returns", B9 GND (power) "Power Ground Pins for Both Input and Output Returns", B10 GND (power) "Power Ground Pins for Both Input and Output Returns", B11 GND (power) "Power Ground Pins for Both Input and Output Returns", E1 SGND (power) "Signal Ground Pin. Return ground path for all analog and low power circuitry. Tie a single connection to GND in the application.", F3 GND (power) "Power Ground Pins for Both Input and Output Returns", F4 SVIN (power) "Signal Input Voltage. This pin is internally connected to VIN through a lowpass filter.", F7 GND (power) "Power Ground Pins for Both Input and Output Returns", F8 GND (power) "Power Ground Pins for Both Input and Output Returns", G1 GND (power) "Power Ground Pins for Both Input and Output Returns", G2 GND (power) "Power Ground Pins for Both Input and Output Returns", G3 GND (power) "Power Ground Pins for Both Input and Output Returns", G4 GND (power) "Power Ground Pins for Both Input and Output Returns", G5 GND (power) "Power Ground Pins for Both Input and Output Returns", G6 GND (power) "Power Ground Pins for Both Input and Output Returns", G7 GND (power) "Power Ground Pins for Both Input and Output Returns", G8 GND (power) "Power Ground Pins for Both Input and Output Returns"